# EAGLE library part NTB0102 (library dragino)
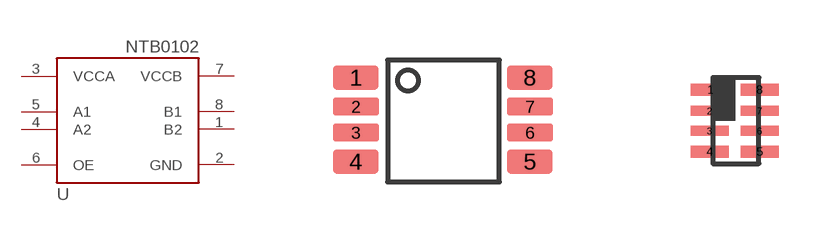
[diagram p16: symbol with the pads of NTB0102-SOT505-2; footprints NTB0102-SOT505-2, NXP-SOT833-1]

Designator prefix -

## NTB0102DP  [NTB0102-SOT505-2]
1  B2
2  GND
3  VCCA
4  A2
5  A1
6  OE
7  VCCB
8  B1

## NTB0102GT  [NXP-SOT833-1]
Pads as for NTB0102-SOT505-2

## Footprint NTB0102-SOT505-2 (pad centres in mm)
smd 1.15 x 0.6: 1 -2.318,1.084; 4 -2.318,-1.016; 5 2.032,-1.016; 8 2.032,1.084
smd 1.15 x 0.45: 2 -2.318,0.359; 3 -2.318,-0.291; 6 2.032,-0.291; 7 2.032,0.359

## Footprint NXP-SOT833-1 (pad centres in mm)
smd 1 x 0.3: 1 -0.614,0.778
smd 0.95 x 0.25: 2 -0.639,0.253; 3 -0.639,-0.247; 6 0.611,-0.247; 7 0.611,0.253
smd 0.95 x 0.3: 4 -0.639,-0.772; 5 0.611,-0.772; 8 0.611,0.778